# Altium integrated library Capacitor - Ceramic - Sumsung.IntLib: 1421 symbols (part 8 of 22)
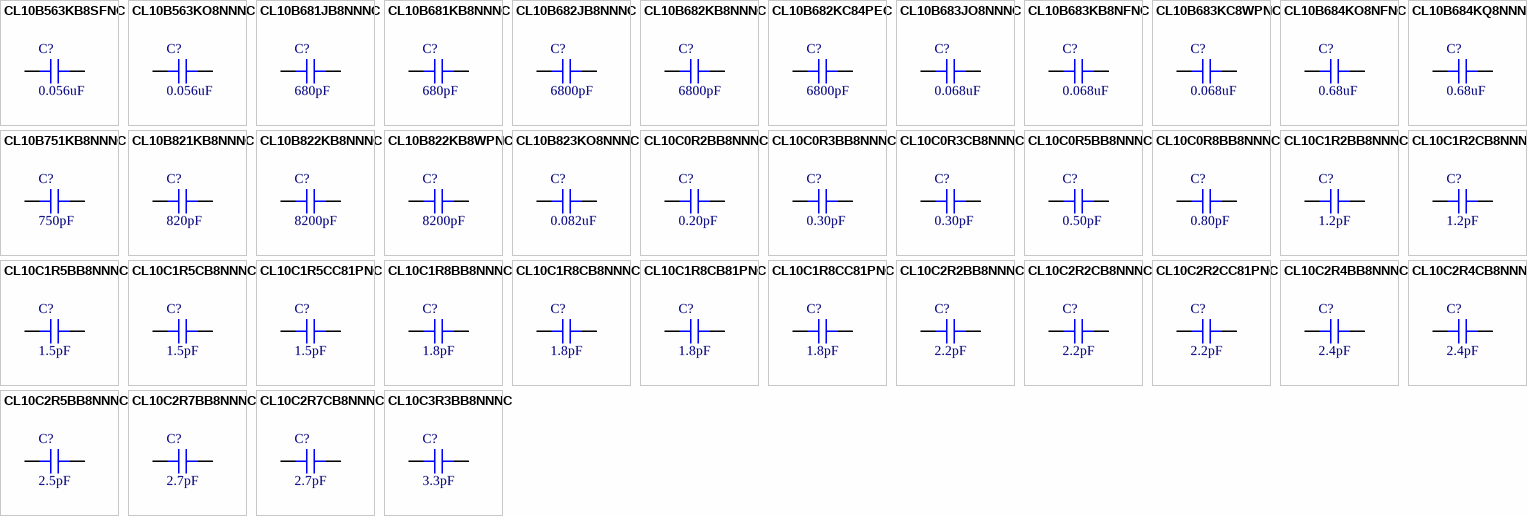
[diagram p42: symbols CL10B563KB8SFNC to CL10C3R3BB8NNNC]

## CL10C1R2BB8NNNC
designator C?, comment 1.2pF
CAP CER 1.2PF 50V NP0 0603; Part Number: CL10C1R2BB8NNNC; Manufacturer: Samsung Electro-Mechanics America, Inc.; TemperatureRange: -55C ~ 125C; TemperatureCoefficient: C0G, NP0; Tolerance: 0.1pF; Value: 1.2pF; PartId: 5259; Supplier 1: Digi-Key; Supplier Part Number 1: 1276-1759-2-ND; ComponentLink1Description: Datasheet; ComponentLink1URL: http://www.samsungsem.com/kr/support/product-search/mlcc/CL10C1R2BB8NNNC.jsp; ComponentLink2Description: Digi-Key listing; ComponentLink2URL: http://digikey.com/product-detail/en/CL10C1R2BB8NNNC/1276-1759-2-ND/3887417; Voltage: 50V; Price: 0.0037; Type: -; Device Package: 0603 (1608 Metric)
footprint CAP 0603/1608
pins: 1, 2

## CL10C1R2CB8NNNC
designator C?, comment 1.2pF
CAP CER 1.2PF 50V NP0 0603; Part Number: CL10C1R2CB8NNNC; Manufacturer: Samsung Electro-Mechanics America, Inc.; TemperatureRange: -55C ~ 125C; TemperatureCoefficient: C0G, NP0; Tolerance: 0.25pF; Value: 1.2pF; PartId: 5367; Supplier 1: Digi-Key; Supplier Part Number 1: 1276-1186-2-ND; ComponentLink1Description: Datasheet; ComponentLink1URL: http://www.samsungsem.com/kr/support/product-search/mlcc/CL10C1R2CB8NNNC.jsp; ComponentLink2Description: Digi-Key listing; ComponentLink2URL: http://digikey.com/product-detail/en/CL10C1R2CB8NNNC/1276-1186-2-ND/3886844; Voltage: 50V; Price: 0.0102; Type: -; Device Package: 0603 (1608 Metric)
footprint CAP 0603/1608
pins: 1, 2

## CL10C1R5BB8NNNC
designator C?, comment 1.5pF
CAP CER 1.5PF 50V NP0 0603; Part Number: CL10C1R5BB8NNNC; Manufacturer: Samsung Electro-Mechanics America, Inc.; TemperatureRange: -55C ~ 125C; TemperatureCoefficient: C0G, NP0; Tolerance: 0.1pF; Value: 1.5pF; PartId: 5241; Supplier 1: Digi-Key; Supplier Part Number 1: 1276-1071-2-ND; ComponentLink1Description: Datasheet; ComponentLink1URL: http://www.samsungsem.com/kr/support/product-search/mlcc/CL10C1R5BB8NNNC.jsp; ComponentLink2Description: Digi-Key listing; ComponentLink2URL: http://digikey.com/product-detail/en/CL10C1R5BB8NNNC/1276-1071-2-ND/3886729; Voltage: 50V; Price: 0.0029; Type: -; Device Package: 0603 (1608 Metric)
footprint CAP 0603/1608
pins: 1, 2

## CL10C1R5CB8NNNC
designator C?, comment 1.5pF
CAP CER 1.5PF 50V NP0 0603; Part Number: CL10C1R5CB8NNNC; Manufacturer: Samsung Electro-Mechanics America, Inc.; TemperatureRange: -55C ~ 125C; TemperatureCoefficient: C0G, NP0; Tolerance: 0.25pF; Value: 1.5pF; PartId: 5374; Supplier 1: Digi-Key; Supplier Part Number 1: 1276-1819-2-ND; ComponentLink1Description: Datasheet; ComponentLink1URL: http://www.samsungsem.com/kr/support/product-search/mlcc/CL10C1R5CB8NNNC.jsp; ComponentLink2Description: Digi-Key listing; ComponentLink2URL: http://digikey.com/product-detail/en/CL10C1R5CB8NNNC/1276-1819-2-ND/3887477; Voltage: 50V; Price: 0.0102; Type: -; Device Package: 0603 (1608 Metric)
footprint CAP 0603/1608
pins: 1, 2

## CL10C1R5CC81PNC
designator C?, comment 1.5pF
CAP CER 1.5PF 100V C0G/NP0 0603; Part Number: CL10C1R5CC81PNC; Manufacturer: Samsung Electro-Mechanics; TemperatureRange: -55C ~ 125C; TemperatureCoefficient: C0G, NP0; Tolerance: 0.25pF; Value: 1.5pF; PartId: 30832; Supplier 1: Digi-Key; Supplier Part Number 1: 1276-6627-2-ND; ComponentLink1Description: Datasheet; ComponentLink1URL: http://www.samsungsem.com/kr/support/library/product-catalog/mlcc.jsp; ComponentLink2Description: Digi-Key Listing; ComponentLink2URL: https://www.digikey.com/product-detail/en/samsung-electro-mechanics/CL10C1R5CC81PNC/1276-6627-2-ND/5961111; Voltage: 100V; Price: 0; Device Package: 0603 (1608 Metric)
footprint CAP 0603/1608
pins: 1, 2

## CL10C1R8BB8NNNC
designator C?, comment 1.8pF
CAP CER 1.8PF 50V NP0 0603; Part Number: CL10C1R8BB8NNNC; Manufacturer: Samsung Electro-Mechanics America, Inc.; TemperatureRange: -55C ~ 125C; TemperatureCoefficient: C0G, NP0; Tolerance: 0.1pF; Value: 1.8pF; PartId: 5261; Supplier 1: Digi-Key; Supplier Part Number 1: 1276-1127-2-ND; ComponentLink1Description: Datasheet; ComponentLink1URL: http://www.samsungsem.com/kr/support/product-search/mlcc/CL10C1R8BB8NNNC.jsp; ComponentLink2Description: Digi-Key listing; ComponentLink2URL: http://digikey.com/product-detail/en/CL10C1R8BB8NNNC/1276-1127-2-ND/3886785; Voltage: 50V; Price: 0.0041; Type: -; Device Package: 0603 (1608 Metric)
footprint CAP 0603/1608
pins: 1, 2

## CL10C1R8CB8NNNC
designator C?, comment 1.8pF
CAP CER 1.8PF 50V NP0 0603; Part Number: CL10C1R8CB8NNNC; Manufacturer: Samsung Electro-Mechanics America, Inc.; TemperatureRange: -55C ~ 125C; TemperatureCoefficient: C0G, NP0; Tolerance: 0.25pF; Value: 1.8pF; PartId: 5375; Supplier 1: Digi-Key; Supplier Part Number 1: 1276-2218-2-ND; ComponentLink1Description: Datasheet; ComponentLink1URL: http://www.samsungsem.com/kr/support/product-search/mlcc/CL10C1R8CB8NNNC.jsp; ComponentLink2Description: Digi-Key listing; ComponentLink2URL: http://digikey.com/product-detail/en/CL10C1R8CB8NNNC/1276-2218-2-ND/3887876; Voltage: 50V; Price: 0.0102; Type: -; Device Package: 0603 (1608 Metric)
footprint CAP 0603/1608
pins: 1, 2

## CL10C1R8CB81PNC
designator C?, comment 1.8pF
CAP CER 1.8PF 50V C0G/NP0 0603; Part Number: CL10C1R8CB81PNC; Manufacturer: Samsung Electro-Mechanics; TemperatureRange: -55C ~ 125C; TemperatureCoefficient: C0G, NP0; Tolerance: 0.25pF; Value: 1.8pF; PartId: 30459; Supplier 1: Digi-Key; Supplier Part Number 1: 1276-6539-2-ND; ComponentLink1Description: Datasheet; ComponentLink1URL: http://www.samsungsem.com/kr/support/product-search/mlcc/CL10C1R8CB81PNC.jsp; ComponentLink2Description: Digi-Key Listing; ComponentLink2URL: https://www.digikey.com/product-detail/en/samsung-electro-mechanics/CL10C1R8CB81PNC/1276-6539-2-ND/5961023; Voltage: 50V; Price: 0; Device Package: 0603 (1608 Metric)
footprint CAP 0603/1608
pins: 1, 2

## CL10C1R8CC81PNC
designator C?, comment 1.8pF
CAP CER 1.8PF 100V C0G/NP0 0603; Part Number: CL10C1R8CC81PNC; Manufacturer: Samsung Electro-Mechanics; TemperatureRange: -55C ~ 125C; TemperatureCoefficient: C0G, NP0; Tolerance: 0.25pF; Value: 1.8pF; PartId: 30833; Supplier 1: Digi-Key; Supplier Part Number 1: 1276-6628-2-ND; ComponentLink1Description: Datasheet; ComponentLink1URL: http://www.samsungsem.com/kr/support/product-search/mlcc/CL10C1R8CC81PNC.jsp; ComponentLink2Description: Digi-Key Listing; ComponentLink2URL: https://www.digikey.com/product-detail/en/samsung-electro-mechanics/CL10C1R8CC81PNC/1276-6628-2-ND/5961112; Voltage: 100V; Price: 0; Device Package: 0603 (1608 Metric)
footprint CAP 0603/1608
pins: 1, 2

## CL10C2R2BB8NNNC
designator C?, comment 2.2pF
CAP CER 2.2PF 50V NP0 0603; Part Number: CL10C2R2BB8NNNC; Manufacturer: Samsung Electro-Mechanics America, Inc.; TemperatureRange: -55C ~ 125C; TemperatureCoefficient: C0G, NP0; Tolerance: 0.1pF; Value: 2.2pF; PartId: 5363; Supplier 1: Digi-Key; Supplier Part Number 1: 1276-1084-2-ND; ComponentLink1Description: Datasheet; ComponentLink1URL: http://www.samsungsem.com/kr/support/product-search/mlcc/CL10C2R2BB8NNNC.jsp; ComponentLink2Description: Digi-Key listing; ComponentLink2URL: http://digikey.com/product-detail/en/CL10C2R2BB8NNNC/1276-1084-2-ND/3886742; Voltage: 50V; Price: 0.0102; Type: -; Device Package: 0603 (1608 Metric)
footprint CAP 0603/1608
pins: 1, 2

## CL10C2R2CB8NNNC
designator C?, comment 2.2pF
CAP CER 2.2PF 50V NP0 0603; Part Number: CL10C2R2CB8NNNC; Manufacturer: Samsung Electro-Mechanics America, Inc.; TemperatureRange: -55C ~ 125C; TemperatureCoefficient: C0G, NP0; Tolerance: 0.25pF; Value: 2.2pF; PartId: 5362; Supplier 1: Digi-Key; Supplier Part Number 1: 1276-1281-2-ND; ComponentLink1Description: Datasheet; ComponentLink1URL: http://www.samsungsem.com/kr/support/product-search/mlcc/CL10C2R2CB8NNNC.jsp; ComponentLink2Description: Digi-Key listing; ComponentLink2URL: http://digikey.com/product-detail/en/CL10C2R2CB8NNNC/1276-1281-2-ND/3886939; Voltage: 50V; Price: 0.0102; Type: -; Device Package: 0603 (1608 Metric)
footprint CAP 0603/1608
pins: 1, 2

## CL10C2R2CC81PNC
designator C?, comment 2.2pF
CAP CER 2.2PF 100V C0G/NP0 0603; Part Number: CL10C2R2CC81PNC; Manufacturer: Samsung Electro-Mechanics; TemperatureRange: -55C ~ 125C; TemperatureCoefficient: C0G, NP0; Tolerance: 0.25pF; Value: 2.2pF; PartId: 30834; Supplier 1: Digi-Key; Supplier Part Number 1: 1276-6629-2-ND; ComponentLink1Description: Datasheet; ComponentLink1URL: http://www.samsungsem.com/kr/support/product-search/mlcc/CL10C2R2CC81PNC.jsp; ComponentLink2Description: Digi-Key Listing; ComponentLink2URL: https://www.digikey.com/product-detail/en/samsung-electro-mechanics/CL10C2R2CC81PNC/1276-6629-2-ND/5961113; Voltage: 100V; Price: 0; Device Package: 0603 (1608 Metric)
footprint CAP 0603/1608
pins: 1, 2

## CL10C2R4BB8NNNC
designator C?, comment 2.4pF
CAP CER 2.4PF 50V NP0 0603; Part Number: CL10C2R4BB8NNNC; Manufacturer: Samsung Electro-Mechanics America, Inc.; TemperatureRange: -55C ~ 125C; TemperatureCoefficient: C0G, NP0; Tolerance: 0.1pF; Value: 2.4pF; PartId: 5268; Supplier 1: Digi-Key; Supplier Part Number 1: 1276-2254-2-ND; ComponentLink1Description: Datasheet; ComponentLink1URL: http://www.samsungsem.com/kr/support/product-search/mlcc/CL10C2R4BB8NNNC.jsp; ComponentLink2Description: Digi-Key listing; ComponentLink2URL: http://digikey.com/product-detail/en/CL10C2R4BB8NNNC/1276-2254-2-ND/3887912; Voltage: 50V; Price: 0.0043; Type: -; Device Package: 0603 (1608 Metric)
footprint CAP 0603/1608
pins: 1, 2

## CL10C2R4CB8NNNC
designator C?, comment 2.4pF
CAP CER 2.4PF 50V NP0 0603; Part Number: CL10C2R4CB8NNNC; Manufacturer: Samsung Electro-Mechanics America, Inc.; TemperatureRange: -55C ~ 125C; TemperatureCoefficient: C0G, NP0; Tolerance: 0.25pF; Value: 2.4pF; PartId: 5255; Supplier 1: Digi-Key; Supplier Part Number 1: 1276-2255-2-ND; ComponentLink1Description: Datasheet; ComponentLink1URL: http://www.samsungsem.com/kr/support/product-search/mlcc/CL10C2R4CB8NNNC.jsp; ComponentLink2Description: Digi-Key listing; ComponentLink2URL: http://digikey.com/product-detail/en/CL10C2R4CB8NNNC/1276-2255-2-ND/3887913; Voltage: 50V; Price: 0.0034; Type: -; Device Package: 0603 (1608 Metric)
footprint CAP 0603/1608
pins: 1, 2

## CL10C2R5BB8NNNC
designator C?, comment 2.5pF
CAP CER 2.5PF 50V NP0 0603; Part Number: CL10C2R5BB8NNNC; Manufacturer: Samsung Electro-Mechanics America, Inc.; TemperatureRange: -55C ~ 125C; TemperatureCoefficient: C0G, NP0; Tolerance: 0.1pF; Value: 2.5pF; PartId: 5272; Supplier 1: Digi-Key; Supplier Part Number 1: 1276-2256-2-ND; ComponentLink1Description: Datasheet; ComponentLink1URL: http://www.samsungsem.com/kr/support/product-search/mlcc/CL10C2R5BB8NNNC.jsp; ComponentLink2Description: Digi-Key listing; ComponentLink2URL: http://digikey.com/product-detail/en/CL10C2R5BB8NNNC/1276-2256-2-ND/3887914; Voltage: 50V; Price: 0.0049; Type: -; Device Package: 0603 (1608 Metric)
footprint CAP 0603/1608
pins: 1, 2

## CL10C2R7BB8NNNC
designator C?, comment 2.7pF
CAP CER 2.7PF 50V NP0 0603; Part Number: CL10C2R7BB8NNNC; Manufacturer: Samsung Electro-Mechanics America, Inc.; TemperatureRange: -55C ~ 125C; TemperatureCoefficient: C0G, NP0; Tolerance: 0.1pF; Value: 2.7pF; PartId: 5265; Supplier 1: Digi-Key; Supplier Part Number 1: 1276-1240-2-ND; ComponentLink1Description: Datasheet; ComponentLink1URL: http://www.samsungsem.com/kr/support/product-search/mlcc/CL10C2R7BB8NNNC.jsp; ComponentLink2Description: Digi-Key listing; ComponentLink2URL: http://digikey.com/product-detail/en/CL10C2R7BB8NNNC/1276-1240-2-ND/3886898; Voltage: 50V; Price: 0.0043; Type: -; Device Package: 0603 (1608 Metric)
footprint CAP 0603/1608
pins: 1, 2

## CL10C2R7CB8NNNC
designator C?, comment 2.7pF
CAP CER 2.7PF 50V NP0 0603; Part Number: CL10C2R7CB8NNNC; Manufacturer: Samsung Electro-Mechanics America, Inc.; TemperatureRange: -55C ~ 125C; TemperatureCoefficient: C0G, NP0; Tolerance: 0.25pF; Value: 2.7pF; PartId: 5371; Supplier 1: Digi-Key; Supplier Part Number 1: 1276-2258-2-ND; ComponentLink1Description: Datasheet; ComponentLink1URL: http://www.samsungsem.com/kr/support/product-search/mlcc/CL10C2R7CB8NNNC.jsp; ComponentLink2Description: Digi-Key listing; ComponentLink2URL: http://digikey.com/product-detail/en/CL10C2R7CB8NNNC/1276-2258-2-ND/3887916; Voltage: 50V; Price: 0.0102; Type: -; Device Package: 0603 (1608 Metric)
footprint CAP 0603/1608
pins: 1, 2

## CL10C3R3BB8NNNC
designator C?, comment 3.3pF
CAP CER 3.3PF 50V NP0 0603; Part Number: CL10C3R3BB8NNNC; Manufacturer: Samsung Electro-Mechanics America, Inc.; TemperatureRange: -55C ~ 125C; TemperatureCoefficient: C0G, NP0; Tolerance: 0.1pF; Value: 3.3pF; PartId: 5414; Supplier 1: Digi-Key; Supplier Part Number 1: 1276-1241-2-ND; ComponentLink1Description: Datasheet; ComponentLink1URL: http://www.samsungsem.com/kr/support/product-search/mlcc/CL10C3R3BB8NNNC.jsp; ComponentLink2Description: Digi-Key listing; ComponentLink2URL: http://digikey.com/product-detail/en/CL10C3R3BB8NNNC/1276-1241-2-ND/3886899; Voltage: 50V; Price: 0.0128; Type: -; Device Package: 0603 (1608 Metric)
footprint CAP 0603/1608
pins: 1, 2

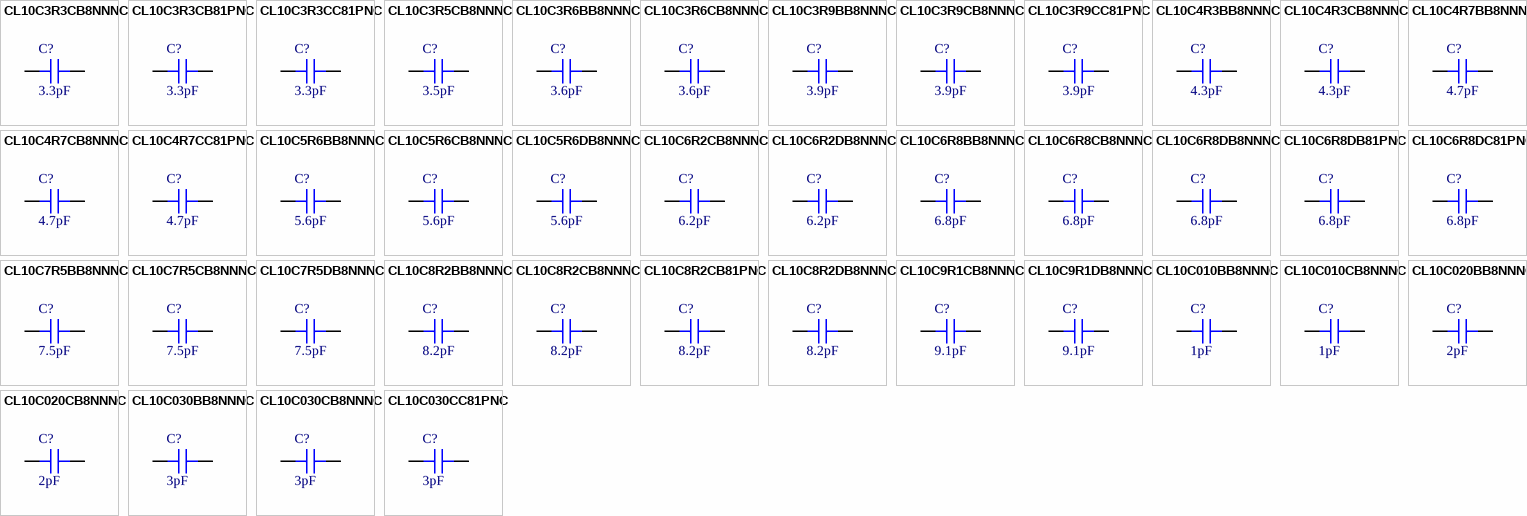
[diagram p12: symbols CL10C3R3CB8NNNC to CL10C030CC81PNC]

## CL10C3R3CB8NNNC
designator C?, comment 3.3pF
CAP CER 3.3PF 50V NP0 0603; Part Number: CL10C3R3CB8NNNC; Manufacturer: Samsung Electro-Mechanics America, Inc.; TemperatureRange: -55C ~ 125C; TemperatureCoefficient: C0G, NP0; Tolerance: 0.25pF; Value: 3.3pF; PartId: 5365; Supplier 1: Digi-Key; Supplier Part Number 1: 1276-1790-2-ND; ComponentLink1Description: Datasheet; ComponentLink1URL: http://www.samsungsem.com/kr/support/product-search/mlcc/CL10C3R3CB8NNNC.jsp; ComponentLink2Description: Digi-Key listing; ComponentLink2URL: http://digikey.com/product-detail/en/CL10C3R3CB8NNNC/1276-1790-2-ND/3887448; Voltage: 50V; Price: 0.0102; Type: -; Device Package: 0603 (1608 Metric)
footprint CAP 0603/1608
pins: 1, 2

## CL10C3R3CB81PNC
designator C?, comment 3.3pF
CAP CER 3.3PF 50V C0G/NP0 0603; Part Number: CL10C3R3CB81PNC; Manufacturer: Samsung Electro-Mechanics; TemperatureRange: -55C ~ 125C; TemperatureCoefficient: C0G, NP0; Tolerance: 0.25pF; Value: 3.3pF; PartId: 30665; Supplier 1: Digi-Key; Supplier Part Number 1: 1276-6549-2-ND; ComponentLink1Description: Datasheet; ComponentLink1URL: http://www.samsungsem.com/kr/support/product-search/mlcc/CL10C3R3CB81PNC.jsp; ComponentLink2Description: Digi-Key Listing; ComponentLink2URL: https://www.digikey.com/product-detail/en/samsung-electro-mechanics/CL10C3R3CB81PNC/1276-6549-2-ND/5961033; Voltage: 50V; Price: 0; Device Package: 0603 (1608 Metric)
footprint CAP 0603/1608
pins: 1, 2

## CL10C3R3CC81PNC
designator C?, comment 3.3pF
CAP CER 3.3PF 100V C0G/NP0 0603; Part Number: CL10C3R3CC81PNC; Manufacturer: Samsung Electro-Mechanics; TemperatureRange: -55C ~ 125C; TemperatureCoefficient: C0G, NP0; Tolerance: 0.25pF; Value: 3.3pF; PartId: 30829; Supplier 1: Digi-Key; Supplier Part Number 1: 1276-6618-2-ND; ComponentLink1Description: Datasheet; ComponentLink1URL: http://www.samsungsem.com/kr/support/library/product-catalog/mlcc.jsp; ComponentLink2Description: Digi-Key Listing; ComponentLink2URL: https://www.digikey.com/product-detail/en/samsung-electro-mechanics/CL10C3R3CC81PNC/1276-6618-2-ND/5961102; Voltage: 100V; Price: 0; Device Package: 0603 (1608 Metric)
footprint CAP 0603/1608
pins: 1, 2

## CL10C3R5CB8NNNC
designator C?, comment 3.5pF
CAP CER 3.5PF 50V NP0 0603; Part Number: CL10C3R5CB8NNNC; Manufacturer: Samsung Electro-Mechanics America, Inc.; TemperatureRange: -55C ~ 125C; TemperatureCoefficient: C0G, NP0; Tolerance: 0.25pF; Value: 3.5pF; PartId: 5256; Supplier 1: Digi-Key; Supplier Part Number 1: 1276-2287-2-ND; ComponentLink1Description: Datasheet; ComponentLink1URL: http://www.samsungsem.com/kr/support/product-search/mlcc/CL10C3R5CB8NNNC.jsp; ComponentLink2Description: Digi-Key listing; ComponentLink2URL: http://digikey.com/product-detail/en/CL10C3R5CB8NNNC/1276-2287-2-ND/3887945; Voltage: 50V; Price: 0.0034; Type: -; Device Package: 0603 (1608 Metric)
footprint CAP 0603/1608
pins: 1, 2

## CL10C3R6BB8NNNC
designator C?, comment 3.6pF
CAP CER 3.6PF 50V NP0 0603; Part Number: CL10C3R6BB8NNNC; Manufacturer: Samsung Electro-Mechanics America, Inc.; TemperatureRange: -55C ~ 125C; TemperatureCoefficient: C0G, NP0; Tolerance: 0.1pF; Value: 3.6pF; PartId: 5324; Supplier 1: Digi-Key; Supplier Part Number 1: 1276-1791-2-ND; ComponentLink1Description: Datasheet; ComponentLink1URL: http://www.samsungsem.com/kr/support/product-search/mlcc/CL10C3R6BB8NNNC.jsp; ComponentLink2Description: Digi-Key listing; ComponentLink2URL: http://digikey.com/product-detail/en/CL10C3R6BB8NNNC/1276-1791-2-ND/3887449; Voltage: 50V; Price: 0.0085; Type: -; Device Package: 0603 (1608 Metric)
footprint CAP 0603/1608
pins: 1, 2

## CL10C3R6CB8NNNC
designator C?, comment 3.6pF
CAP CER 3.6PF 50V NP0 0603; Part Number: CL10C3R6CB8NNNC; Manufacturer: Samsung Electro-Mechanics America, Inc.; TemperatureRange: -55C ~ 125C; TemperatureCoefficient: C0G, NP0; Tolerance: 0.25pF; Value: 3.6pF; PartId: 5251; Supplier 1: Digi-Key; Supplier Part Number 1: 1276-2288-2-ND; ComponentLink1Description: Datasheet; ComponentLink1URL: http://www.samsungsem.com/kr/support/product-search/mlcc/CL10C3R6CB8NNNC.jsp; ComponentLink2Description: Digi-Key listing; ComponentLink2URL: http://digikey.com/product-detail/en/CL10C3R6CB8NNNC/1276-2288-2-ND/3887946; Voltage: 50V; Price: 0.0034; Type: -; Device Package: 0603 (1608 Metric)
footprint CAP 0603/1608
pins: 1, 2

## CL10C3R9BB8NNNC
designator C?, comment 3.9pF
CAP CER 3.9PF 50V NP0 0603; Part Number: CL10C3R9BB8NNNC; Manufacturer: Samsung Electro-Mechanics America, Inc.; TemperatureRange: -55C ~ 125C; TemperatureCoefficient: C0G, NP0; Tolerance: 0.1pF; Value: 3.9pF; PartId: 13561; Supplier 1: Digi-Key; Supplier Part Number 1: 1276-2289-2-ND; ComponentLink1Description: Datasheet; ComponentLink1URL: http://www.samsungsem.com/kr/support/product-search/mlcc/CL10C3R9BB8NNNC.jsp; ComponentLink2Description: Digi-Key Listing; ComponentLink2URL: https://www.digikey.com/product-detail/en/samsung-electro-mechanics-america-inc/CL10C3R9BB8NNNC/1276-2289-2-ND/3887947; Voltage: 50V; Price: 0.0047; Device Package: 0603 (1608 Metric)
footprint CAP 0603/1608
pins: 1, 2

## CL10C3R9CB8NNNC
designator C?, comment 3.9pF
CAP CER 3.9PF 50V NP0 0603; Part Number: CL10C3R9CB8NNNC; Manufacturer: Samsung Electro-Mechanics America, Inc.; TemperatureRange: -55C ~ 125C; TemperatureCoefficient: C0G, NP0; Tolerance: 0.25pF; Value: 3.9pF; PartId: 5369; Supplier 1: Digi-Key; Supplier Part Number 1: 1276-1146-2-ND; ComponentLink1Description: Datasheet; ComponentLink1URL: http://www.samsungsem.com/kr/support/product-search/mlcc/CL10C3R9CB8NNNC.jsp; ComponentLink2Description: Digi-Key listing; ComponentLink2URL: http://digikey.com/product-detail/en/CL10C3R9CB8NNNC/1276-1146-2-ND/3886804; Voltage: 50V; Price: 0.0102; Type: -; Device Package: 0603 (1608 Metric)
footprint CAP 0603/1608
pins: 1, 2

## CL10C3R9CC81PNC
designator C?, comment 3.9pF
CAP CER 3.9PF 100V C0G/NP0 0603; Part Number: CL10C3R9CC81PNC; Manufacturer: Samsung Electro-Mechanics; TemperatureRange: -55C ~ 125C; TemperatureCoefficient: C0G, NP0; Tolerance: 0.25pF; Value: 3.9pF; PartId: 30830; Supplier 1: Digi-Key; Supplier Part Number 1: 1276-6620-2-ND; ComponentLink1Description: Datasheet; ComponentLink1URL: http://www.samsungsem.com/kr/support/product-search/mlcc/CL10C3R9CC81PNC.jsp; ComponentLink2Description: Digi-Key Listing; ComponentLink2URL: https://www.digikey.com/product-detail/en/samsung-electro-mechanics/CL10C3R9CC81PNC/1276-6620-2-ND/5961104; Voltage: 100V; Price: 0; Device Package: 0603 (1608 Metric)
footprint CAP 0603/1608
pins: 1, 2

## CL10C4R3BB8NNNC
designator C?, comment 4.3pF
CAP CER 4.3PF 50V NP0 0603; Part Number: CL10C4R3BB8NNNC; Manufacturer: Samsung Electro-Mechanics America, Inc.; TemperatureRange: -55C ~ 125C; TemperatureCoefficient: C0G, NP0; Tolerance: 0.1pF; Value: 4.3pF; PartId: 5458; Supplier 1: Digi-Key; Supplier Part Number 1: 1276-2308-2-ND; ComponentLink1Description: Datasheet; ComponentLink1URL: http://www.samsungsem.com/kr/support/product-search/mlcc/CL10C4R3BB8NNNC.jsp; ComponentLink2Description: Digi-Key listing; ComponentLink2URL: http://digikey.com/product-detail/en/CL10C4R3BB8NNNC/1276-2308-2-ND/3887966; Voltage: 50V; Price: 0.0156; Type: -; Device Package: 0603 (1608 Metric)
footprint CAP 0603/1608
pins: 1, 2

## CL10C4R3CB8NNNC
designator C?, comment 4.3pF
CAP CER 4.3PF 50V NP0 0603; Part Number: CL10C4R3CB8NNNC; Manufacturer: Samsung Electro-Mechanics America, Inc.; TemperatureRange: -55C ~ 125C; TemperatureCoefficient: C0G, NP0; Tolerance: 0.25pF; Value: 4.3pF; PartId: 5248; Supplier 1: Digi-Key; Supplier Part Number 1: 1276-2309-2-ND; ComponentLink1Description: Datasheet; ComponentLink1URL: http://www.samsungsem.com/kr/support/product-search/mlcc/CL10C4R3CB8NNNC.jsp; ComponentLink2Description: Digi-Key listing; ComponentLink2URL: http://digikey.com/product-detail/en/CL10C4R3CB8NNNC/1276-2309-2-ND/3887967; Voltage: 50V; Price: 0.0034; Type: -; Device Package: 0603 (1608 Metric)
footprint CAP 0603/1608
pins: 1, 2

## CL10C4R7BB8NNNC
designator C?, comment 4.7pF
CAP CER 4.7PF 50V NP0 0603; Part Number: CL10C4R7BB8NNNC; Manufacturer: Samsung Electro-Mechanics America, Inc.; TemperatureRange: -55C ~ 125C; TemperatureCoefficient: C0G, NP0; Tolerance: 0.1pF; Value: 4.7pF; PartId: 5443; Supplier 1: Digi-Key; Supplier Part Number 1: 1276-1792-2-ND; ComponentLink1Description: Datasheet; ComponentLink1URL: http://www.samsungsem.com/kr/support/product-search/mlcc/CL10C4R7BB8NNNC.jsp; ComponentLink2Description: Digi-Key listing; ComponentLink2URL: http://digikey.com/product-detail/en/CL10C4R7BB8NNNC/1276-1792-2-ND/3887450; Voltage: 50V; Price: 0.0143; Type: -; Device Package: 0603 (1608 Metric)
footprint CAP 0603/1608
pins: 1, 2

## CL10C4R7CB8NNNC
designator C?, comment 4.7pF
CAP CER 4.7PF 50V NP0 0603; Part Number: CL10C4R7CB8NNNC; Manufacturer: Samsung Electro-Mechanics America, Inc.; TemperatureRange: -55C ~ 125C; TemperatureCoefficient: C0G, NP0; Tolerance: 0.25pF; Value: 4.7pF; PartId: 5361; Supplier 1: Digi-Key; Supplier Part Number 1: 1276-1282-2-ND; ComponentLink1Description: Datasheet; ComponentLink1URL: http://www.samsungsem.com/kr/support/product-search/mlcc/CL10C4R7CB8NNNC.jsp; ComponentLink2Description: Digi-Key listing; ComponentLink2URL: http://digikey.com/product-detail/en/CL10C4R7CB8NNNC/1276-1282-2-ND/3886940; Voltage: 50V; Price: 0.0102; Type: -; Device Package: 0603 (1608 Metric)
footprint CAP 0603/1608
pins: 1, 2

## CL10C4R7CC81PNC
designator C?, comment 4.7pF
CAP CER 4.7PF 100V C0G/NP0 0603; Part Number: CL10C4R7CC81PNC; Manufacturer: Samsung Electro-Mechanics; TemperatureRange: -55C ~ 125C; TemperatureCoefficient: C0G, NP0; Tolerance: 0.25pF; Value: 4.7pF; PartId: 30664; Supplier 1: Digi-Key; Supplier Part Number 1: 1276-6630-2-ND; ComponentLink1Description: Datasheet; ComponentLink1URL: http://www.samsungsem.com/kr/support/product-search/mlcc/CL10C4R7CC81PNC.jsp; ComponentLink2Description: Digi-Key Listing; ComponentLink2URL: https://www.digikey.com/product-detail/en/samsung-electro-mechanics/CL10C4R7CC81PNC/1276-6630-2-ND/5961114; Voltage: 100V; Price: 0; Device Package: 0603 (1608 Metric)
footprint CAP 0603/1608
pins: 1, 2

## CL10C5R6BB8NNNC
designator C?, comment 5.6pF
CAP CER 5.6PF 50V NP0 0603; Part Number: CL10C5R6BB8NNNC; Manufacturer: Samsung Electro-Mechanics America, Inc.; TemperatureRange: -55C ~ 125C; TemperatureCoefficient: C0G, NP0; Tolerance: 0.1pF; Value: 5.6pF; PartId: 5549; Supplier 1: Digi-Key; Supplier Part Number 1: 1276-2318-2-ND; ComponentLink1Description: Datasheet; ComponentLink1URL: http://www.samsungsem.com/kr/support/product-search/mlcc/CL10C5R6BB8NNNC.jsp; ComponentLink2Description: Digi-Key listing; ComponentLink2URL: http://digikey.com/product-detail/en/CL10C5R6BB8NNNC/1276-2318-2-ND/3887976; Voltage: 50V; Price: 0.0248; Type: -; Device Package: 0603 (1608 Metric)
footprint CAP 0603/1608
pins: 1, 2

## CL10C5R6CB8NNNC
designator C?, comment 5.6pF
CAP CER 5.6PF 50V NP0 0603; Part Number: CL10C5R6CB8NNNC; Manufacturer: Samsung Electro-Mechanics America, Inc.; TemperatureRange: -55C ~ 125C; TemperatureCoefficient: C0G, NP0; Tolerance: 0.25pF; Value: 5.6pF; PartId: 5401; Supplier 1: Digi-Key; Supplier Part Number 1: 1276-1128-2-ND; ComponentLink1Description: Datasheet; ComponentLink1URL: http://www.samsungsem.com/kr/support/product-search/mlcc/CL10C5R6CB8NNNC.jsp; ComponentLink2Description: Digi-Key listing; ComponentLink2URL: http://digikey.com/product-detail/en/CL10C5R6CB8NNNC/1276-1128-2-ND/3886786; Voltage: 50V; Price: 0.0116; Type: -; Device Package: 0603 (1608 Metric)
footprint CAP 0603/1608
pins: 1, 2

## CL10C5R6DB8NNNC
designator C?, comment 5.6pF
CAP CER 5.6PF 50V NP0 0603; Part Number: CL10C5R6DB8NNNC; Manufacturer: Samsung Electro-Mechanics America, Inc.; TemperatureRange: -55C ~ 125C; TemperatureCoefficient: C0G, NP0; Tolerance: 0.5pF; Value: 5.6pF; PartId: 5383; Supplier 1: Digi-Key; Supplier Part Number 1: 1276-2319-2-ND; ComponentLink1Description: Datasheet; ComponentLink1URL: http://www.samsungsem.com/kr/support/product-search/mlcc/CL10C5R6DB8NNNC.jsp; ComponentLink2Description: Digi-Key listing; ComponentLink2URL: http://digikey.com/product-detail/en/CL10C5R6DB8NNNC/1276-2319-2-ND/3887977; Voltage: 50V; Price: 0.0102; Type: -; Device Package: 0603 (1608 Metric)
footprint CAP 0603/1608
pins: 1, 2

## CL10C6R2CB8NNNC
designator C?, comment 6.2pF
CAP CER 6.2PF 50V NP0 0603; Part Number: CL10C6R2CB8NNNC; Manufacturer: Samsung Electro-Mechanics America, Inc.; TemperatureRange: -55C ~ 125C; TemperatureCoefficient: C0G, NP0; Tolerance: 0.25pF; Value: 6.2pF; PartId: 5364; Supplier 1: Digi-Key; Supplier Part Number 1: 1276-2330-2-ND; ComponentLink1Description: Datasheet; ComponentLink1URL: http://www.samsungsem.com/kr/support/product-search/mlcc/CL10C6R2CB8NNNC.jsp; ComponentLink2Description: Digi-Key listing; ComponentLink2URL: http://digikey.com/product-detail/en/CL10C6R2CB8NNNC/1276-2330-2-ND/3887988; Voltage: 50V; Price: 0.0102; Type: -; Device Package: 0603 (1608 Metric)
footprint CAP 0603/1608
pins: 1, 2

## CL10C6R2DB8NNNC
designator C?, comment 6.2pF
CAP CER 6.2PF 50V NP0 0603; Part Number: CL10C6R2DB8NNNC; Manufacturer: Samsung Electro-Mechanics America, Inc.; TemperatureRange: -55C ~ 125C; TemperatureCoefficient: C0G, NP0; Tolerance: 0.5pF; Value: 6.2pF; PartId: 5252; Supplier 1: Digi-Key; Supplier Part Number 1: 1276-2331-2-ND; ComponentLink1Description: Datasheet; ComponentLink1URL: http://www.samsungsem.com/kr/support/product-search/mlcc/CL10C6R2DB8NNNC.jsp; ComponentLink2Description: Digi-Key listing; ComponentLink2URL: http://digikey.com/product-detail/en/CL10C6R2DB8NNNC/1276-2331-2-ND/3887989; Voltage: 50V; Price: 0.0034; Type: -; Device Package: 0603 (1608 Metric)
footprint CAP 0603/1608
pins: 1, 2

## CL10C6R8BB8NNNC
designator C?, comment 6.8pF
CAP CER 6.8PF 50V NP0 0603; Part Number: CL10C6R8BB8NNNC; Manufacturer: Samsung Electro-Mechanics America, Inc.; TemperatureRange: -55C ~ 125C; TemperatureCoefficient: C0G, NP0; Tolerance: 0.1pF; Value: 6.8pF; PartId: 5329; Supplier 1: Digi-Key; Supplier Part Number 1: 1276-2332-2-ND; ComponentLink1Description: Datasheet; ComponentLink1URL: http://www.samsungsem.com/kr/support/product-search/mlcc/CL10C6R8BB8NNNC.jsp; ComponentLink2Description: Digi-Key listing; ComponentLink2URL: http://digikey.com/product-detail/en/CL10C6R8BB8NNNC/1276-2332-2-ND/3887990; Voltage: 50V; Price: 0.0088; Type: -; Device Package: 0603 (1608 Metric)
footprint CAP 0603/1608
pins: 1, 2

## CL10C6R8CB8NNNC
designator C?, comment 6.8pF
CAP CER 6.8PF 50V NP0 0603; Part Number: CL10C6R8CB8NNNC; Manufacturer: Samsung Electro-Mechanics America, Inc.; TemperatureRange: -55C ~ 125C; TemperatureCoefficient: C0G, NP0; Tolerance: 0.25pF; Value: 6.8pF; PartId: 5412; Supplier 1: Digi-Key; Supplier Part Number 1: 1276-1793-2-ND; ComponentLink1Description: Datasheet; ComponentLink1URL: http://www.samsungsem.com/kr/support/product-search/mlcc/CL10C6R8CB8NNNC.jsp; ComponentLink2Description: Digi-Key listing; ComponentLink2URL: http://digikey.com/product-detail/en/CL10C6R8CB8NNNC/1276-1793-2-ND/3887451; Voltage: 50V; Price: 0.0126; Type: -; Device Package: 0603 (1608 Metric)
footprint CAP 0603/1608
pins: 1, 2

## CL10C6R8DB8NNNC
designator C?, comment 6.8pF
CAP CER 6.8PF 50V NP0 0603; Part Number: CL10C6R8DB8NNNC; Manufacturer: Samsung Electro-Mechanics America, Inc.; TemperatureRange: -55C ~ 125C; TemperatureCoefficient: C0G, NP0; Tolerance: 0.5pF; Value: 6.8pF; PartId: 5373; Supplier 1: Digi-Key; Supplier Part Number 1: 1276-2334-2-ND; ComponentLink1Description: Datasheet; ComponentLink1URL: http://www.samsungsem.com/kr/support/product-search/mlcc/CL10C6R8DB8NNNC.jsp; ComponentLink2Description: Digi-Key listing; ComponentLink2URL: http://digikey.com/product-detail/en/CL10C6R8DB8NNNC/1276-2334-2-ND/3887992; Voltage: 50V; Price: 0.0102; Type: -; Device Package: 0603 (1608 Metric)
footprint CAP 0603/1608
pins: 1, 2

## CL10C6R8DB81PNC
designator C?, comment 6.8pF
CAP CER 6.8PF 50V C0G/NP0 0603; Part Number: CL10C6R8DB81PNC; Manufacturer: Samsung Electro-Mechanics; TemperatureRange: -55C ~ 125C; TemperatureCoefficient: C0G, NP0; Tolerance: 0.5pF; Value: 6.8pF; PartId: 30487; Supplier 1: Digi-Key; Supplier Part Number 1: 1276-6848-2-ND; ComponentLink1Description: Datasheet; ComponentLink1URL: http://www.samsungsem.com/kr/support/product-search/mlcc/CL10C6R8DB81PNC.jsp; ComponentLink2Description: Digi-Key Listing; ComponentLink2URL: https://www.digikey.com/product-detail/en/samsung-electro-mechanics/CL10C6R8DB81PNC/1276-6848-2-ND/5961332; Voltage: 50V; Price: 0; Device Package: 0603 (1608 Metric)
footprint CAP 0603/1608
pins: 1, 2

## CL10C6R8DC81PNC
designator C?, comment 6.8pF
CAP CER 6.8PF 100V C0G/NP0 0603; Part Number: CL10C6R8DC81PNC; Manufacturer: Samsung Electro-Mechanics; TemperatureRange: -55C ~ 125C; TemperatureCoefficient: C0G, NP0; Tolerance: 0.5pF; Value: 6.8pF; PartId: 30603; Supplier 1: Digi-Key; Supplier Part Number 1: 1276-6645-2-ND; ComponentLink1Description: Datasheet; ComponentLink1URL: http://www.samsungsem.com/kr/support/product-search/mlcc/CL10C6R8DC81PNC.jsp; ComponentLink2Description: Digi-Key Listing; ComponentLink2URL: https://www.digikey.com/product-detail/en/samsung-electro-mechanics/CL10C6R8DC81PNC/1276-6645-2-ND/5961129; Voltage: 100V; Price: 0; Device Package: 0603 (1608 Metric)
footprint CAP 0603/1608
pins: 1, 2

## CL10C7R5BB8NNNC
designator C?, comment 7.5pF
CAP CER 7.5PF 50V NP0 0603; Part Number: CL10C7R5BB8NNNC; Manufacturer: Samsung Electro-Mechanics America, Inc.; TemperatureRange: -55C ~ 125C; TemperatureCoefficient: C0G, NP0; Tolerance: 0.1pF; Value: 7.5pF; PartId: 5331; Supplier 1: Digi-Key; Supplier Part Number 1: 1276-2337-2-ND; ComponentLink1Description: Datasheet; ComponentLink1URL: http://www.samsungsem.com/kr/support/product-search/mlcc/CL10C7R5BB8NNNC.jsp; ComponentLink2Description: Digi-Key listing; ComponentLink2URL: http://digikey.com/product-detail/en/CL10C7R5BB8NNNC/1276-2337-2-ND/3887995; Voltage: 50V; Price: 0.0092; Type: -; Device Package: 0603 (1608 Metric)
footprint CAP 0603/1608
pins: 1, 2

## CL10C7R5CB8NNNC
designator C?, comment 7.5pF
CAP CER 7.5PF 50V NP0 0603; Part Number: CL10C7R5CB8NNNC; Manufacturer: Samsung Electro-Mechanics America, Inc.; TemperatureRange: -55C ~ 125C; TemperatureCoefficient: C0G, NP0; Tolerance: 0.25pF; Value: 7.5pF; PartId: 5278; Supplier 1: Digi-Key; Supplier Part Number 1: 1276-2338-2-ND; ComponentLink1Description: Datasheet; ComponentLink1URL: http://www.samsungsem.com/kr/support/product-search/mlcc/CL10C7R5CB8NNNC.jsp; ComponentLink2Description: Digi-Key listing; ComponentLink2URL: http://digikey.com/product-detail/en/CL10C7R5CB8NNNC/1276-2338-2-ND/3887996; Voltage: 50V; Price: 0.0061; Type: -; Device Package: 0603 (1608 Metric)
footprint CAP 0603/1608
pins: 1, 2

## CL10C7R5DB8NNNC
designator C?, comment 7.5pF
CAP CER 7.5PF 50V NP0 0603; Part Number: CL10C7R5DB8NNNC; Manufacturer: Samsung Electro-Mechanics America, Inc.; TemperatureRange: -55C ~ 125C; TemperatureCoefficient: C0G, NP0; Tolerance: 0.5pF; Value: 7.5pF; PartId: 5253; Supplier 1: Digi-Key; Supplier Part Number 1: 1276-2339-2-ND; ComponentLink1Description: Datasheet; ComponentLink1URL: http://www.samsungsem.com/kr/support/product-search/mlcc/CL10C7R5DB8NNNC.jsp; ComponentLink2Description: Digi-Key listing; ComponentLink2URL: http://digikey.com/product-detail/en/CL10C7R5DB8NNNC/1276-2339-2-ND/3887997; Voltage: 50V; Price: 0.0034; Type: -; Device Package: 0603 (1608 Metric)
footprint CAP 0603/1608
pins: 1, 2

## CL10C8R2BB8NNNC
designator C?, comment 8.2pF
CAP CER 8.2PF 50V NP0 0603; Part Number: CL10C8R2BB8NNNC; Manufacturer: Samsung Electro-Mechanics America, Inc.; TemperatureRange: -55C ~ 125C; TemperatureCoefficient: C0G, NP0; Tolerance: 0.1pF; Value: 8.2pF; PartId: 5564; Supplier 1: Digi-Key; Supplier Part Number 1: 1276-2349-2-ND; ComponentLink1Description: Datasheet; ComponentLink1URL: http://www.samsungsem.com/kr/support/product-search/mlcc/CL10C8R2BB8NNNC.jsp; ComponentLink2Description: Digi-Key listing; ComponentLink2URL: http://digikey.com/product-detail/en/CL10C8R2BB8NNNC/1276-2349-2-ND/3888007; Voltage: 50V; Price: 0.0268; Type: -; Device Package: 0603 (1608 Metric)
footprint CAP 0603/1608
pins: 1, 2

## CL10C8R2CB8NNNC
designator C?, comment 8.2pF
CAP CER 8.2PF 50V NP0 0603; Part Number: CL10C8R2CB8NNNC; Manufacturer: Samsung Electro-Mechanics America, Inc.; TemperatureRange: -55C ~ 125C; TemperatureCoefficient: C0G, NP0; Tolerance: 0.25pF; Value: 8.2pF; PartId: 13304; Supplier 1: Digi-Key; Supplier Part Number 1: 1276-1257-2-ND; ComponentLink1Description: Datasheet; ComponentLink1URL: http://www.samsungsem.com/kr/support/product-search/mlcc/CL10C8R2CB8NNNC.jsp; ComponentLink2Description: Digi-Key Listing; ComponentLink2URL: https://www.digikey.com/product-detail/en/samsung-electro-mechanics-america-inc/CL10C8R2CB8NNNC/1276-1257-2-ND/3886915; Voltage: 50V; Price: 0.0107; Device Package: 0603 (1608 Metric)
footprint CAP 0603/1608
pins: 1, 2

## CL10C8R2CB81PNC
designator C?, comment 8.2pF
CAP CER 8.2PF 50V C0G/NP0 0603; Part Number: CL10C8R2CB81PNC; Manufacturer: Samsung Electro-Mechanics; TemperatureRange: -55C ~ 125C; TemperatureCoefficient: C0G, NP0; Tolerance: 0.25pF; Value: 8.2pF; PartId: 30562; Supplier 1: Digi-Key; Supplier Part Number 1: 1276-6566-2-ND; ComponentLink1Description: Datasheet; ComponentLink1URL: http://www.samsungsem.com/kr/support/product-search/mlcc/CL10C8R2CB81PNC.jsp; ComponentLink2Description: Digi-Key Listing; ComponentLink2URL: https://www.digikey.com/product-detail/en/samsung-electro-mechanics/CL10C8R2CB81PNC/1276-6566-2-ND/5961050; Voltage: 50V; Price: 0; Device Package: 0603 (1608 Metric)
footprint CAP 0603/1608
pins: 1, 2

## CL10C8R2DB8NNNC
designator C?, comment 8.2pF
CAP CER 8.2PF 50V NP0 0603; Part Number: CL10C8R2DB8NNNC; Manufacturer: Samsung Electro-Mechanics America, Inc.; TemperatureRange: -55C ~ 125C; TemperatureCoefficient: C0G, NP0; Tolerance: 0.5pF; Value: 8.2pF; PartId: 5360; Supplier 1: Digi-Key; Supplier Part Number 1: 1276-2350-2-ND; ComponentLink1Description: Datasheet; ComponentLink1URL: http://www.samsungsem.com/kr/support/product-search/mlcc/CL10C8R2DB8NNNC.jsp; ComponentLink2Description: Digi-Key listing; ComponentLink2URL: http://digikey.com/product-detail/en/CL10C8R2DB8NNNC/1276-2350-2-ND/3888008; Voltage: 50V; Price: 0.0102; Type: -; Device Package: 0603 (1608 Metric)
footprint CAP 0603/1608
pins: 1, 2

## CL10C9R1CB8NNNC
designator C?, comment 9.1pF
CAP CER 9.1PF 50V C0G/NP0 0603; Part Number: CL10C9R1CB8NNNC; Manufacturer: Samsung Electro-Mechanics; TemperatureRange: -55C ~ 125C; TemperatureCoefficient: C0G, NP0; Tolerance: 0.25pF; Value: 9.1pF; PartId: 30203; Supplier 1: Digi-Key; Supplier Part Number 1: 1276-2353-2-ND; ComponentLink1Description: Datasheet; ComponentLink1URL: http://www.samsungsem.com/kr/support/product-search/mlcc/CL10C9R1CB8NNNC.jsp; ComponentLink2Description: Digi-Key Listing; ComponentLink2URL: https://www.digikey.com/product-detail/en/samsung-electro-mechanics/CL10C9R1CB8NNNC/1276-2353-2-ND/3888011; Voltage: 50V; Price: 0; Device Package: 0603 (1608 Metric)
footprint CAP 0603/1608
pins: 1, 2

## CL10C9R1DB8NNNC
designator C?, comment 9.1pF
CAP CER 9.1PF 50V NP0 0603; Part Number: CL10C9R1DB8NNNC; Manufacturer: Samsung Electro-Mechanics America, Inc.; TemperatureRange: -55C ~ 125C; TemperatureCoefficient: C0G, NP0; Tolerance: 0.5pF; Value: 9.1pF; PartId: 5254; Supplier 1: Digi-Key; Supplier Part Number 1: 1276-2354-2-ND; ComponentLink1Description: Datasheet; ComponentLink1URL: http://www.samsungsem.com/kr/support/product-search/mlcc/CL10C9R1DB8NNNC.jsp; ComponentLink2Description: Digi-Key listing; ComponentLink2URL: http://digikey.com/product-detail/en/CL10C9R1DB8NNNC/1276-2354-2-ND/3888012; Voltage: 50V; Price: 0.0034; Type: -; Device Package: 0603 (1608 Metric)
footprint CAP 0603/1608
pins: 1, 2

## CL10C010BB8NNNC
designator C?, comment 1pF
CAP CER 1PF 50V NP0 0603; Part Number: CL10C010BB8NNNC; Manufacturer: Samsung Electro-Mechanics America, Inc.; TemperatureRange: -55C ~ 125C; TemperatureCoefficient: C0G, NP0; Tolerance: 0.1pF; Value: 1pF; PartId: 5370; Supplier 1: Digi-Key; Supplier Part Number 1: 1276-1095-2-ND; ComponentLink1Description: Datasheet; ComponentLink1URL: http://www.samsungsem.com/kr/support/product-search/mlcc/CL10C010BB8NNNC.jsp; ComponentLink2Description: Digi-Key listing; ComponentLink2URL: http://digikey.com/product-detail/en/CL10C010BB8NNNC/1276-1095-2-ND/3886753; Voltage: 50V; Price: 0.0102; Type: -; Device Package: 0603 (1608 Metric)
footprint CAP 0603/1608
pins: 1, 2

## CL10C010CB8NNNC
designator C?, comment 1pF
CAP CER 1PF 50V NP0 0603; Part Number: CL10C010CB8NNNC; Manufacturer: Samsung Electro-Mechanics America, Inc.; TemperatureRange: -55C ~ 125C; TemperatureCoefficient: C0G, NP0; Tolerance: 0.25pF; Value: 1pF; PartId: 5366; Supplier 1: Digi-Key; Supplier Part Number 1: 1276-1293-2-ND; ComponentLink1Description: Datasheet; ComponentLink1URL: http://www.samsungsem.com/kr/support/product-search/mlcc/CL10C010CB8NNNC.jsp; ComponentLink2Description: Digi-Key listing; ComponentLink2URL: http://digikey.com/product-detail/en/CL10C010CB8NNNC/1276-1293-2-ND/3886951; Voltage: 50V; Price: 0.0102; Type: -; Device Package: 0603 (1608 Metric)
footprint CAP 0603/1608
pins: 1, 2

## CL10C020BB8NNNC
designator C?, comment 2pF
CAP CER 2PF 50V NP0 0603; Part Number: CL10C020BB8NNNC; Manufacturer: Samsung Electro-Mechanics America, Inc.; TemperatureRange: -55C ~ 125C; TemperatureCoefficient: C0G, NP0; Tolerance: 0.1pF; Value: 2pF; PartId: 5263; Supplier 1: Digi-Key; Supplier Part Number 1: 1276-1815-2-ND; ComponentLink1Description: Datasheet; ComponentLink1URL: http://www.samsungsem.com/kr/support/product-search/mlcc/CL10C020BB8NNNC.jsp; ComponentLink2Description: Digi-Key listing; ComponentLink2URL: http://digikey.com/product-detail/en/CL10C020BB8NNNC/1276-1815-2-ND/3887473; Voltage: 50V; Price: 0.0043; Type: -; Device Package: 0603 (1608 Metric)
footprint CAP 0603/1608
pins: 1, 2

## CL10C020CB8NNNC
designator C?, comment 2pF
CAP CER 2PF 50V NP0 0603; Part Number: CL10C020CB8NNNC; Manufacturer: Samsung Electro-Mechanics America, Inc.; TemperatureRange: -55C ~ 125C; TemperatureCoefficient: C0G, NP0; Tolerance: 0.25pF; Value: 2pF; PartId: 5376; Supplier 1: Digi-Key; Supplier Part Number 1: 1276-2124-2-ND; ComponentLink1Description: Datasheet; ComponentLink1URL: http://www.samsungsem.com/kr/support/product-search/mlcc/CL10C020CB8NNNC.jsp; ComponentLink2Description: Digi-Key listing; ComponentLink2URL: http://digikey.com/product-detail/en/CL10C020CB8NNNC/1276-2124-2-ND/3887782; Voltage: 50V; Price: 0.0102; Type: -; Device Package: 0603 (1608 Metric)
footprint CAP 0603/1608
pins: 1, 2

## CL10C030BB8NNNC
designator C?, comment 3pF
CAP CER 3PF 50V NP0 0603; Part Number: CL10C030BB8NNNC; Manufacturer: Samsung Electro-Mechanics America, Inc.; TemperatureRange: -55C ~ 125C; TemperatureCoefficient: C0G, NP0; Tolerance: 0.1pF; Value: 3pF; PartId: 5264; Supplier 1: Digi-Key; Supplier Part Number 1: 1276-2125-2-ND; ComponentLink1Description: Datasheet; ComponentLink1URL: http://www.samsungsem.com/kr/support/product-search/mlcc/CL10C030BB8NNNC.jsp; ComponentLink2Description: Digi-Key listing; ComponentLink2URL: http://digikey.com/product-detail/en/CL10C030BB8NNNC/1276-2125-2-ND/3887783; Voltage: 50V; Price: 0.0043; Type: -; Device Package: 0603 (1608 Metric)
footprint CAP 0603/1608
pins: 1, 2

## CL10C030CB8NNNC
designator C?, comment 3pF
CAP CER 3PF 50V NP0 0603; Part Number: CL10C030CB8NNNC; Manufacturer: Samsung Electro-Mechanics America, Inc.; TemperatureRange: -55C ~ 125C; TemperatureCoefficient: C0G, NP0; Tolerance: 0.25pF; Value: 3pF; PartId: 5328; Supplier 1: Digi-Key; Supplier Part Number 1: 1276-1154-2-ND; ComponentLink1Description: Datasheet; ComponentLink1URL: http://www.samsungsem.com/kr/support/product-search/mlcc/CL10C030CB8NNNC.jsp; ComponentLink2Description: Digi-Key listing; ComponentLink2URL: http://digikey.com/product-detail/en/CL10C030CB8NNNC/1276-1154-2-ND/3886812; Voltage: 50V; Price: 0.0087; Type: -; Device Package: 0603 (1608 Metric)
footprint CAP 0603/1608
pins: 1, 2

## CL10C030CC81PNC
designator C?, comment 3pF
CAP CER 3PF 100V C0G/NP0 0603; Part Number: CL10C030CC81PNC; Manufacturer: Samsung Electro-Mechanics; TemperatureRange: -55C ~ 125C; TemperatureCoefficient: C0G, NP0; Tolerance: 0.25pF; Value: 3pF; PartId: 30831; Supplier 1: Digi-Key; Supplier Part Number 1: 1276-6624-2-ND; ComponentLink1Description: Datasheet; ComponentLink1URL: http://www.samsungsem.com/kr/support/product-search/mlcc/CL10C030CC81PNC.jsp; ComponentLink2Description: Digi-Key Listing; ComponentLink2URL: https://www.digikey.com/product-detail/en/samsung-electro-mechanics/CL10C030CC81PNC/1276-6624-2-ND/5961108; Voltage: 100V; Price: 0; Device Package: 0603 (1608 Metric)
footprint CAP 0603/1608
pins: 1, 2

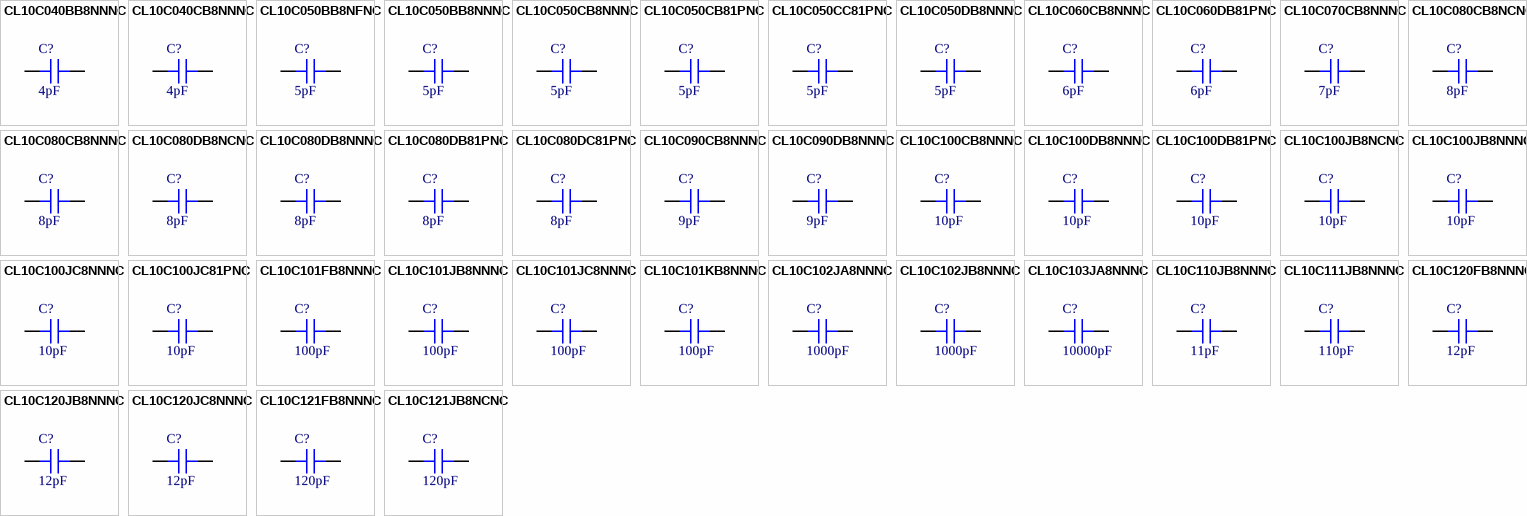
[diagram p13: symbols CL10C040BB8NNNC to CL10C121JB8NCNC]

## CL10C040BB8NNNC
designator C?, comment 4pF
CAP CER 4PF 50V NP0 0603; Part Number: CL10C040BB8NNNC; Manufacturer: Samsung Electro-Mechanics America, Inc.; TemperatureRange: -55C ~ 125C; TemperatureCoefficient: C0G, NP0; Tolerance: 0.1pF; Value: 4pF; PartId: 5267; Supplier 1: Digi-Key; Supplier Part Number 1: 1276-1816-2-ND; ComponentLink1Description: Datasheet; ComponentLink1URL: http://www.samsungsem.com/kr/support/product-search/mlcc/CL10C040BB8NNNC.jsp; ComponentLink2Description: Digi-Key listing; ComponentLink2URL: http://digikey.com/product-detail/en/CL10C040BB8NNNC/1276-1816-2-ND/3887474; Voltage: 50V; Price: 0.0043; Type: -; Device Package: 0603 (1608 Metric)
footprint CAP 0603/1608
pins: 1, 2

## CL10C040CB8NNNC
designator C?, comment 4pF
CAP CER 4PF 50V NP0 0603; Part Number: CL10C040CB8NNNC; Manufacturer: Samsung Electro-Mechanics America, Inc.; TemperatureRange: -55C ~ 125C; TemperatureCoefficient: C0G, NP0; Tolerance: 0.25pF; Value: 4pF; PartId: 5382; Supplier 1: Digi-Key; Supplier Part Number 1: 1276-1789-2-ND; ComponentLink1Description: Datasheet; ComponentLink1URL: http://www.samsungsem.com/kr/support/product-search/mlcc/CL10C040CB8NNNC.jsp; ComponentLink2Description: Digi-Key listing; ComponentLink2URL: http://digikey.com/product-detail/en/CL10C040CB8NNNC/1276-1789-2-ND/3887447; Voltage: 50V; Price: 0.0102; Type: -; Device Package: 0603 (1608 Metric)
footprint CAP 0603/1608
pins: 1, 2

## CL10C050BB8NFNC
designator C?, comment 5pF
CAP CER 5PF 50V C0G/NP0 0603; Part Number: CL10C050BB8NFNC; Manufacturer: Samsung Electro-Mechanics; TemperatureRange: -55C ~ 125C; TemperatureCoefficient: C0G, NP0; Tolerance: 0.1pF; Value: 5pF; PartId: 30199; Supplier 1: Digi-Key; Supplier Part Number 1: 1276-2128-2-ND; ComponentLink1Description: Datasheet; ComponentLink1URL: http://www.samsungsem.com/kr/support/product-search/mlcc/CL10C050BB8NFNC.jsp; ComponentLink2Description: Digi-Key Listing; ComponentLink2URL: https://www.digikey.com/product-detail/en/samsung-electro-mechanics/CL10C050BB8NFNC/1276-2128-2-ND/3887786; Voltage: 50V; Price: 0; Device Package: 0603 (1608 Metric)
footprint CAP 0603/1608
pins: 1, 2

## CL10C050BB8NNNC
designator C?, comment 5pF
CAP CER 5PF 50V NP0 0603; Part Number: CL10C050BB8NNNC; Manufacturer: Samsung Electro-Mechanics America, Inc.; TemperatureRange: -55C ~ 125C; TemperatureCoefficient: C0G, NP0; Tolerance: 0.1pF; Value: 5pF; PartId: 5266; Supplier 1: Digi-Key; Supplier Part Number 1: 1276-2129-2-ND; ComponentLink1Description: Datasheet; ComponentLink1URL: http://www.samsungsem.com/kr/support/product-search/mlcc/CL10C050BB8NNNC.jsp; ComponentLink2Description: Digi-Key listing; ComponentLink2URL: http://digikey.com/product-detail/en/CL10C050BB8NNNC/1276-2129-2-ND/3887787; Voltage: 50V; Price: 0.0043; Type: -; Device Package: 0603 (1608 Metric)
footprint CAP 0603/1608
pins: 1, 2

## CL10C050CB8NNNC
designator C?, comment 5pF
CAP CER 5PF 50V NP0 0603; Part Number: CL10C050CB8NNNC; Manufacturer: Samsung Electro-Mechanics America, Inc.; TemperatureRange: -55C ~ 125C; TemperatureCoefficient: C0G, NP0; Tolerance: 0.25pF; Value: 5pF; PartId: 5379; Supplier 1: Digi-Key; Supplier Part Number 1: 1276-1294-2-ND; ComponentLink1Description: Datasheet; ComponentLink1URL: http://www.samsungsem.com/kr/support/product-search/mlcc/CL10C050CB8NNNC.jsp; ComponentLink2Description: Digi-Key listing; ComponentLink2URL: http://digikey.com/product-detail/en/CL10C050CB8NNNC/1276-1294-2-ND/3886952; Voltage: 50V; Price: 0.0102; Type: -; Device Package: 0603 (1608 Metric)
footprint CAP 0603/1608
pins: 1, 2

## CL10C050CB81PNC
designator C?, comment 5pF
MLCC AUTOMOTIVE 1608(0603) C0G; Part Number: CL10C050CB81PNC; Manufacturer: Samsung Electro-Mechanics; TemperatureRange: -55C ~ 125C; TemperatureCoefficient: C0G, NP0; Tolerance: 0.25pF; Voltage: 50V; Value: 5pF; PartId: 30696; Supplier 1: Digi-Key; Supplier Part Number 1: 1276-7005-2-ND; ComponentLink1Description: Datasheet; ComponentLink1URL: http://www.samsungsem.com/kr/support/product-search/mlcc/CL10C050CB81PNC.jsp; ComponentLink2Description: Digi-Key Listing; ComponentLink2URL: https://www.digikey.com/product-detail/en/samsung-electro-mechanics/CL10C050CB81PNC/1276-7005-2-ND/7320510; Price: 0; Device Package: 0603 (1608 Metric)
footprint CAP 0603/1608
pins: 1, 2

## CL10C050CC81PNC
designator C?, comment 5pF
CAP CER 5PF 100V C0G/NP0 0603; Part Number: CL10C050CC81PNC; Manufacturer: Samsung Electro-Mechanics; TemperatureRange: -55C ~ 125C; TemperatureCoefficient: C0G, NP0; Tolerance: 0.25pF; Value: 5pF; PartId: 30828; Supplier 1: Digi-Key; Supplier Part Number 1: 1276-6625-2-ND; ComponentLink1Description: Datasheet; ComponentLink1URL: http://www.samsungsem.com/kr/support/product-search/mlcc/CL10C050CC81PNC.jsp; ComponentLink2Description: Digi-Key Listing; ComponentLink2URL: https://www.digikey.com/product-detail/en/samsung-electro-mechanics/CL10C050CC81PNC/1276-6625-2-ND/5961109; Voltage: 100V; Price: 0; Device Package: 0603 (1608 Metric)
footprint CAP 0603/1608
pins: 1, 2

## CL10C050DB8NNNC
designator C?, comment 5pF
CAP CER 5PF 50V NP0 0603; Part Number: CL10C050DB8NNNC; Manufacturer: Samsung Electro-Mechanics America, Inc.; TemperatureRange: -55C ~ 125C; TemperatureCoefficient: C0G, NP0; Tolerance: 0.5pF; Value: 5pF; PartId: 5250; Supplier 1: Digi-Key; Supplier Part Number 1: 1276-2131-2-ND; ComponentLink1Description: Datasheet; ComponentLink1URL: http://www.samsungsem.com/kr/support/product-search/mlcc/CL10C050DB8NNNC.jsp; ComponentLink2Description: Digi-Key listing; ComponentLink2URL: http://digikey.com/product-detail/en/CL10C050DB8NNNC/1276-2131-2-ND/3887789; Voltage: 50V; Price: 0.0034; Type: -; Device Package: 0603 (1608 Metric)
footprint CAP 0603/1608
pins: 1, 2

## CL10C060CB8NNNC
designator C?, comment 6pF
CAP CER 6PF 50V NP0 0603; Part Number: CL10C060CB8NNNC; Manufacturer: Samsung Electro-Mechanics America, Inc.; TemperatureRange: -55C ~ 125C; TemperatureCoefficient: C0G, NP0; Tolerance: 0.25pF; Value: 6pF; PartId: 5403; Supplier 1: Digi-Key; Supplier Part Number 1: 1276-2133-2-ND; ComponentLink1Description: Datasheet; ComponentLink1URL: http://www.samsungsem.com/kr/support/product-search/mlcc/CL10C060CB8NNNC.jsp; ComponentLink2Description: Digi-Key listing; ComponentLink2URL: http://digikey.com/product-detail/en/CL10C060CB8NNNC/1276-2133-2-ND/3887791; Voltage: 50V; Price: 0.0116; Type: -; Device Package: 0603 (1608 Metric)
footprint CAP 0603/1608
pins: 1, 2

## CL10C060DB81PNC
designator C?, comment 6pF
CAP CER 6PF 50V C0G/NP0 0603; Part Number: CL10C060DB81PNC; Manufacturer: Samsung Electro-Mechanics; TemperatureRange: -55C ~ 125C; TemperatureCoefficient: C0G, NP0; Tolerance: 0.5pF; Value: 6pF; PartId: 30686; Supplier 1: Digi-Key; Supplier Part Number 1: 1276-6594-2-ND; ComponentLink1Description: Datasheet; ComponentLink1URL: http://www.samsungsem.com/kr/support/product-search/mlcc/CL10C060DB81PNC.jsp; ComponentLink2Description: Digi-Key Listing; ComponentLink2URL: https://www.digikey.com/product-detail/en/samsung-electro-mechanics/CL10C060DB81PNC/1276-6594-2-ND/5961078; Voltage: 50V; Price: 0; Device Package: 0603 (1608 Metric)
footprint CAP 0603/1608
pins: 1, 2

## CL10C070CB8NNNC
designator C?, comment 7pF
CAP CER 7PF 50V NP0 0603; Part Number: CL10C070CB8NNNC; Manufacturer: Samsung Electro-Mechanics America, Inc.; TemperatureRange: -55C ~ 125C; TemperatureCoefficient: C0G, NP0; Tolerance: 0.25pF; Value: 7pF; PartId: 5404; Supplier 1: Digi-Key; Supplier Part Number 1: 1276-2137-2-ND; ComponentLink1Description: Datasheet; ComponentLink1URL: http://www.samsungsem.com/kr/support/product-search/mlcc/CL10C070CB8NNNC.jsp; ComponentLink2Description: Digi-Key listing; ComponentLink2URL: http://digikey.com/product-detail/en/CL10C070CB8NNNC/1276-2137-2-ND/3887795; Voltage: 50V; Price: 0.0116; Type: -; Device Package: 0603 (1608 Metric)
footprint CAP 0603/1608
pins: 1, 2